# Altium schematic symbol library gpa_mounting.SchLib: 1 symbol
Pins are listed as number, name and electrical type; pins without a type are passive.

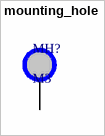
[diagram p0: symbol mounting_hole]

## mounting_hole
designator MH?, comment M3
footprint m2_pan_loose_round
footprint m2_pan_loose_square
footprint m2_pan_tight_round
footprint m2_pan_tight_square
footprint m3_pan_loose_round
footprint m3_pan_loose_square
footprint m3_pan_tight_round
footprint m3_pan_tight_square
pins: 1